# EAGLE library part IT530 (library Micro2)
IT530 Datasheet <http://www.u-blox.com/images/downloads/Product_Docs/IT530_DataSheet_%28FTX-HW-12008%29.pdf>
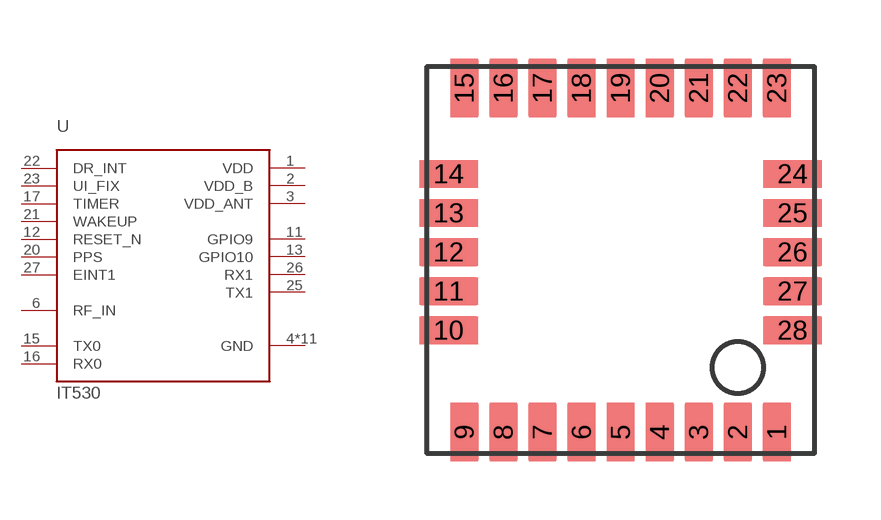
[diagram p8: symbol with the pads of IT530; footprint IT530]

Designator prefix -

## IT530  [IT530]
1  VDD
2  VDD_B
3  VDD_ANT
4  GND
5  GND
6  RF_IN
7  GND
8  GND
9  GND
10  GND
11  GPIO9
12  RESET_N
13  GPIO10
14  GND
15  TX0
16  RX0
17  TIMER
18  GND
19  GND
20  PPS
21  WAKEUP
22  DR_INT
23  UI_FIX
24  GND
25  TX1
26  RX1
27  EINT1
28  GND

## Footprint IT530 (pad centres in mm)
smd 0.711 x 1.422: 1 -0.95,0.55; 2 -1.95,0.55; 3 -2.95,0.55; 4 -3.95,0.55; 5 -4.95,0.55; 6 -5.95,0.55; 7 -6.95,0.55; 8 -7.95,0.55; 9 -8.95,0.55; 15 -8.95,9.35; 16 -7.95,9.35; 17 -6.95,9.35; 18 -5.95,9.35; 19 -4.95,9.35; 20 -3.95,9.35; 21 -2.95,9.35; 22 -1.95,9.35; 23 -0.95,9.35
smd 1.422 x 0.711: 10 -9.35,3.15; 11 -9.35,4.15; 12 -9.35,5.15; 13 -9.35,6.15; 14 -9.35,7.15; 24 -0.55,7.15; 25 -0.55,6.15; 26 -0.55,5.15; 27 -0.55,4.15; 28 -0.55,3.15